# Altium footprint library Header Pin.PcbLib: 9 footprints
Each footprint in its own frame and in the unit in brackets; x right, y up, seen from the top. Pads: shape width x height; smd on the part's side, far side on the other; paste and mask are expansions set on the pad; w line width, h text height; cw(c..) or ccw(c..) is an arc to the next point about the centre after c.
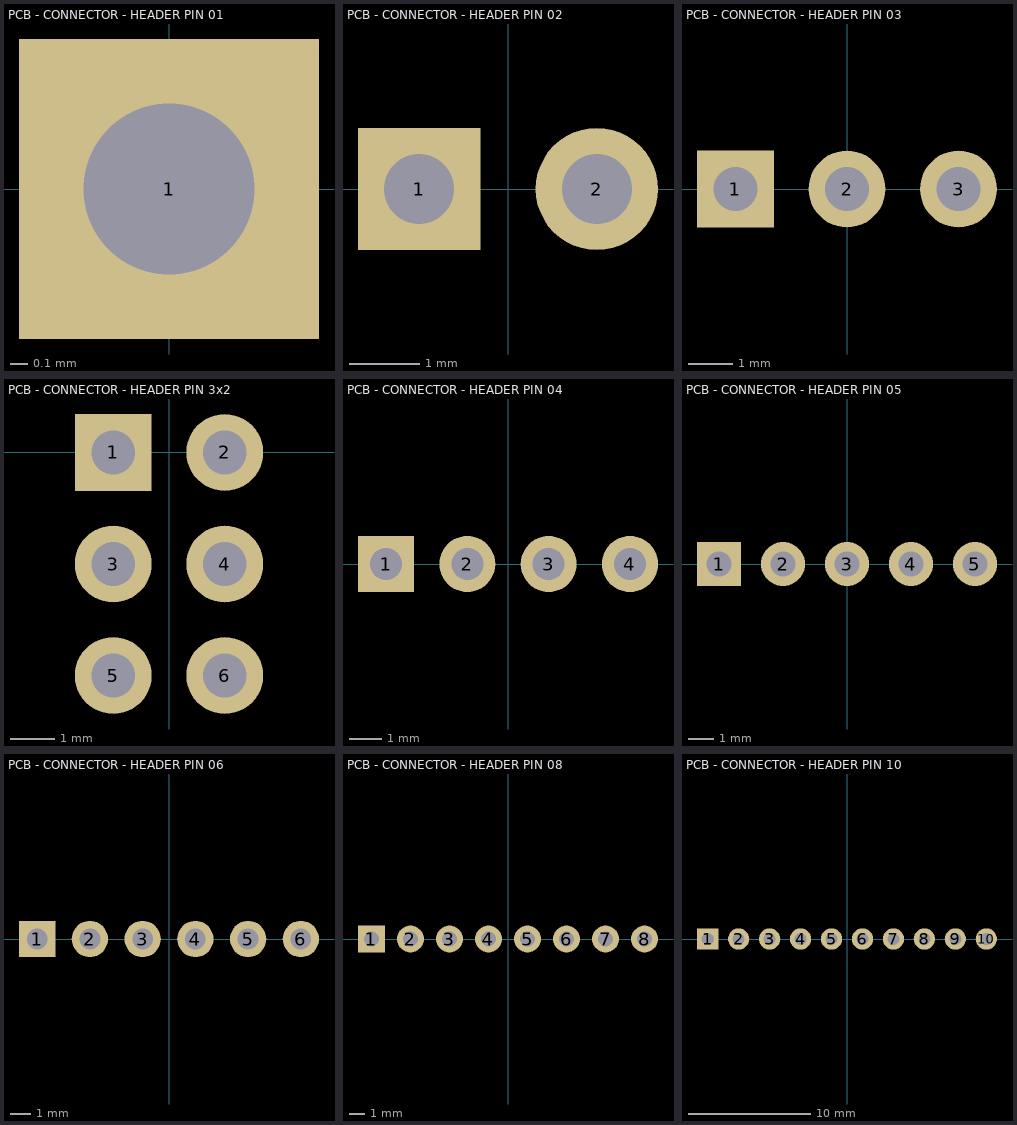
[diagram p0: the footprints below, top view; thin cyan lines are the x and y axes]

## PCB - CONNECTOR - HEADER PIN 01 [mm]
pads (1):
  rect 1.75x1.75 hole 1: 1(0,0)

## PCB - CONNECTOR - HEADER PIN 02 [mm]
pads (2):
  rect 1.75x1.75 hole 1: 1(-1.27,0)
  round 1.75 hole 1: 2(1.27,0)

## PCB - CONNECTOR - HEADER PIN 03 [mm]
pads (3):
  rect 1.75x1.75 hole 1: 1(-2.54,0)
  round 1.75 hole 1: 2(0,0) 3(2.54,0)

## PCB - CONNECTOR - HEADER PIN 3x2 [mm]
pads (6):
  rect 1.75x1.75 hole 1: 1(-1.27,0)
  round 1.75 hole 1: 2(1.27,0) 3(-1.27,-2.54) 4(1.27,-2.54) 5(-1.27,-5.08) 6(1.27,-5.08)

## PCB - CONNECTOR - HEADER PIN 04 [mm]
pads (4):
  rect 1.75x1.75 hole 1: 1(-3.81,0)
  round 1.75 hole 1: 2(-1.27,0) 3(1.27,0) 4(3.81,0)

## PCB - CONNECTOR - HEADER PIN 05 [mm]
pads (5):
  rect 1.75x1.75 hole 1: 1(-5.08,0)
  round 1.75 hole 1: 2(-2.54,0) 3(0,0) 4(2.54,0) 5(5.08,0)

## PCB - CONNECTOR - HEADER PIN 06 [mm]
pads (6):
  rect 1.75x1.75 hole 1: 1(-6.35,0)
  round 1.75 hole 1: 2(-3.81,0) 3(-1.27,0) 4(1.27,0) 5(3.81,0) 6(6.35,0)

## PCB - CONNECTOR - HEADER PIN 08 [mm]
pads (8):
  rect 1.75x1.75 hole 1: 1(-8.89,0)
  round 1.75 hole 1: 2(-6.35,0) 3(-3.81,0) 4(-1.27,0) 5(1.27,0) 6(3.81,0) 7(6.35,0) 8(8.89,0)

## PCB - CONNECTOR - HEADER PIN 10 [mm]
pads (10):
  rect 1.75x1.75 hole 1: 1(-11.43,0)
  round 1.75 hole 1: 2(-8.89,0) 3(-6.35,0) 4(-3.81,0) 5(-1.27,0) 6(1.27,0) 7(3.81,0) 8(6.35,0) 9(8.89,0) 10(11.43,0)